# EAGLE library part PCI-E-X1 (library cvogel)
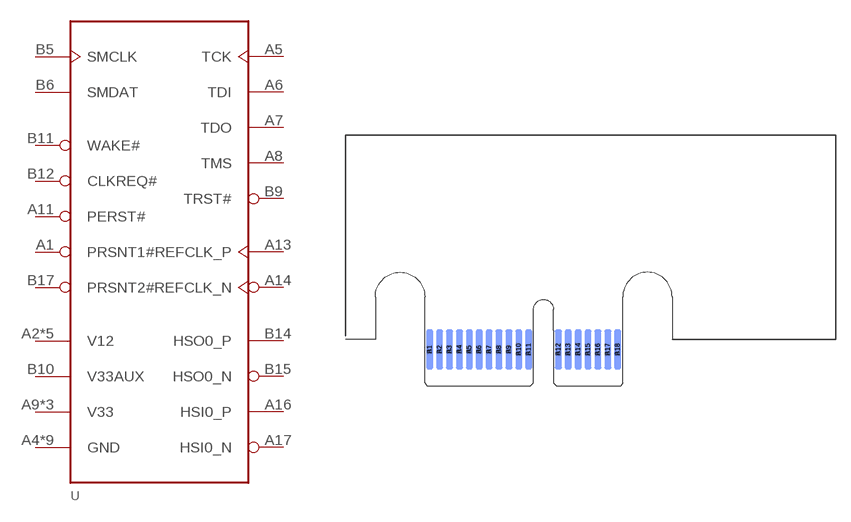
[diagram p7: symbol with the pads of PCI-E_SLOT_X1; footprint PCI-E_SLOT_X1]

Designator prefix -

## PCI-E-X1  [PCI-E_SLOT_X1]
A1  PRSNT1#
A2  V12
A3  V12
A4  GND  pwr
A5  TCK
A6  TDI
A7  TDO
A8  TMS
A9  V33
A10  V33
A11  PERST#
A12  GND  pwr
A13  REFCLK_P
A14  REFCLK_N
A15  GND  pwr
A16  HSI0_P
A17  HSI0_N
A18  GND  pwr
B1  V12
B2  V12
B3  V12
B4  GND  pwr
B5  SMCLK
B6  SMDAT
B7  GND  pwr
B8  V33
B9  TRST#
B10  V33AUX
B11  WAKE#
B12  CLKREQ#
B13  GND  pwr
B14  HSO0_P
B15  HSO0_N
B16  GND  pwr
B17  PRSNT2#
B18  GND  pwr

## Footprint PCI-E_SLOT_X1 (pad centres in mm)
Copy from con-pci_express(pci-e).lbr uploaded Mon Jul 2 10:15:25 2007 with Finished-Layer Library for PCI-Express x16 (PCI-E) connector. Includes connector and card edge pattern. Uploaded by JF Duval <jfduval@aqra.ca> from AQRA.ca
smd 0.7 x 4 bottom: A1 8.5,3.75; A2 9.5,3.75; A3 10.5,3.75; A4 11.5,3.75; A5 12.5,3.75; A6 13.5,3.75; A7 14.5,3.75; A8 15.5,3.75; A9 16.5,3.75; A10 17.5,3.75; A11 18.5,3.75; A12 21.5,3.75; A13 22.5,3.75; A14 23.5,3.75; A15 24.5,3.75; A16 25.5,3.75; A17 26.5,3.75; A18 27.5,3.75
smd 0.7 x 4: B1 8.5,3.75; B2 9.5,3.75; B3 10.5,3.75; B4 11.5,3.75; B5 12.5,3.75; B6 13.5,3.75; B7 14.5,3.75; B8 15.5,3.75; B9 16.5,3.75; B10 17.5,3.75; B11 18.5,3.75; B12 21.5,3.75; B13 22.5,3.75; B14 23.5,3.75; B15 24.5,3.75; B16 25.5,3.75; B17 26.5,3.75; B18 27.5,3.75